# Altium integrated library GRM155R71H104KE14D.IntLib: 1 symbol
Pins are listed as number, name and electrical type; pins without a type are passive.

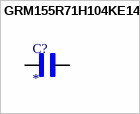
[diagram p0: symbol GRM155R71H104KE14D]

## GRM155R71H104KE14D
designator C?
SMD capacitor X7R(EIA) with capacitance 0.10uF Tol.10%. Rated voltage 50Vdc 125C; MF: Murata Electronics; MP: GRM155R71H104KE14D; SnapEDA_Link: https://www.snapeda.com/parts/GRM155R71H104KE14D/Murata+Electronics+North+America/view-part/?ref=snap; Package: 1005-2 Murata; Value: *; Check_prices: https://www.snapeda.com/parts/GRM155R71H104KE14D/Murata+Electronics+North+America/view-part/?ref=eda
footprint CAPC1005X55N
pins: 1, 2